# Altium schematic symbol library MOSFET-N.SchLib: 2 symbols
Pins are listed as number, name and electrical type; pins without a type are passive.

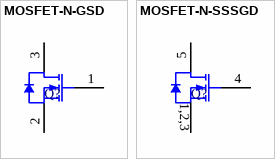
[diagram p0: symbols MOSFET-N-GSD to MOSFET-N-SSSGD]

## MOSFET-N-GSD
designator Q?
pins: 1 G, 2 S, 3 D

## MOSFET-N-SSSGD
designator Q?
pins: 1 S, 2 S, 3 S, 4 G, 5 D
text: 1,2,3